# Altium footprint library SOT89_TO-243AA.PcbLib: 1 footprints
Each footprint in its own frame and in the unit in brackets; x right, y up, seen from the top. Pads: shape width x height; smd on the part's side, far side on the other; paste and mask are expansions set on the pad; w line width, h text height; cw(c..) or ccw(c..) is an arc to the next point about the centre after c.
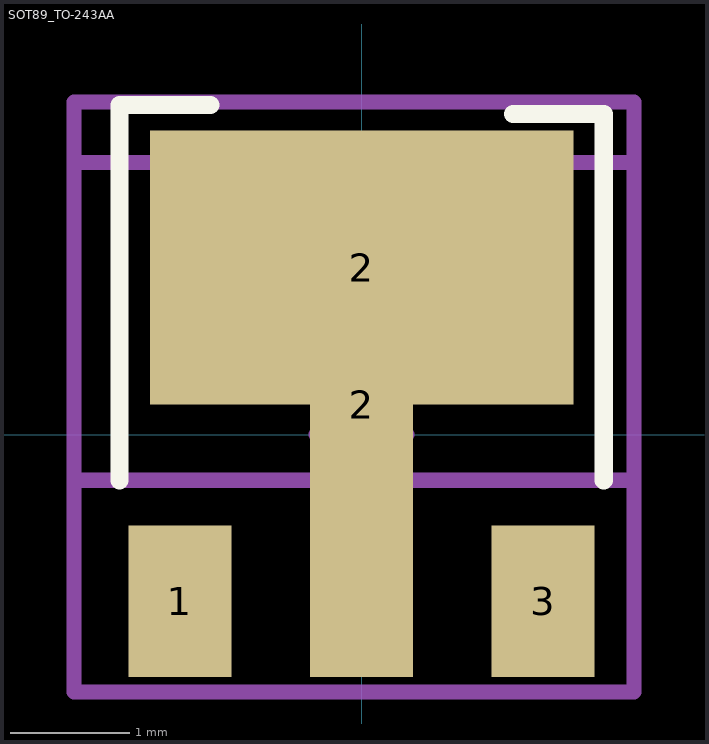
[diagram p0: the footprint, top view; thin cyan lines are the x and y axes]

## SOT89_TO-243AA [mil]
pads (4):
  rect 34x50 smd: 1(-60,-55.12) 3(60,-55.12)
  rect 34x180 smd: 2(0,9.88)
  rect 140x90.55 smd: 2(0.04,55.12)
Top Overlay:
  lines w6: -80,-15.12 -80,108.88 -50,108.88 ; 50,105.88 80,105.88 80,-15.12
Mechanical 13:
  lines w5: -95,-15.12 -95,89.88 90,89.88 90,-15.12 -95,-15.12
Mechanical 15:
  lines w5: -15,0 15,0 ; 0,-15 0,15 ; -95,-85.12 90,-85.12 90,109.88 -95,109.88 -95,-85.12
Mechanical 17:
  text "'.Designator'" at -85,-80 h15.75
Mechanical 19:
  text "'.Comment'" at -80,-75 h15.75
3D body "SOT89-3.STEP": height 66.54, standoff 0, extent -93.52,-73.7 91.51,101.49